# EAGLE library part MPU6050 (library myLib)
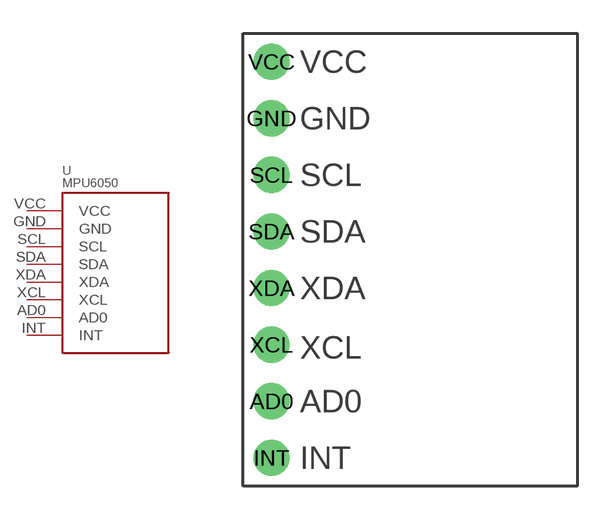
[diagram p0: symbol with the pads of MPU6050; footprint MPU6050]

Designator prefix -

## MPU6050  [MPU6050]
AD0  AD0
GND  GND
INT  INT
SCL  SCL
SDA  SDA
VCC  VCC
XCL  XCL
XDA  XDA

## Footprint MPU6050 (pad centres in mm)
drill 0.813 pad 1.626: AD0 1.27,-16.51; GND 1.27,-3.81; INT 1.27,-19.05; SCL 1.27,-6.35; SDA 1.27,-8.89; VCC 1.27,-1.27; XCL 1.27,-13.97; XDA 1.27,-11.43